# Altium schematic symbol library analog_gps.SchLib: 3 symbols
Pins are listed as number, name and electrical type; pins without a type are passive.

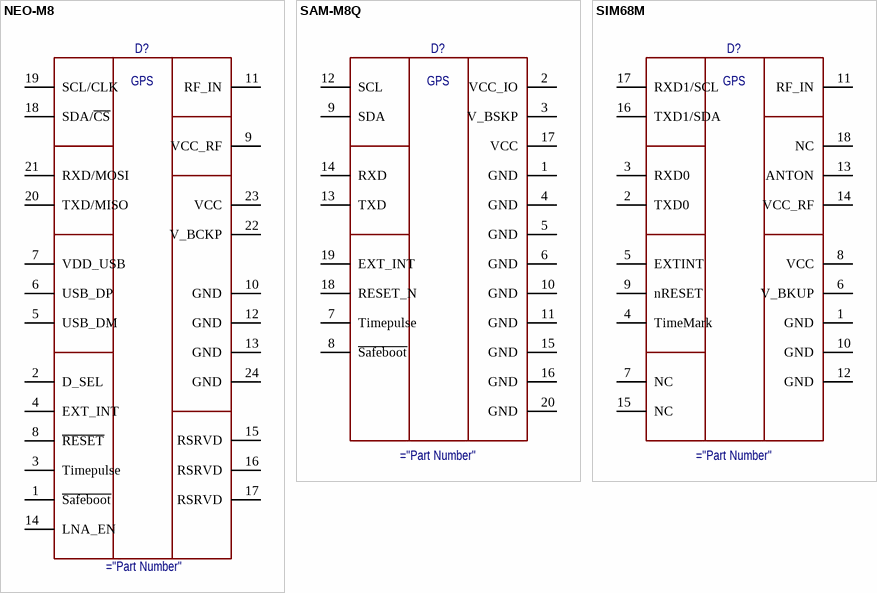
[diagram p0: symbols NEO-M8 to SIM68M]

## NEO-M8
designator D?
GPS Module
pins: 1 ~{Safeboot}, 2 D_SEL, 3 Timepulse, 4 EXT_INT, 5 USB_DM, 6 USB_DP, 7 VDD_USB, 8 ~{RESET}, 9 VCC_RF, 10 GND, 11 RF_IN, 12 GND, 13 GND, 14 LNA_EN, 15 RSRVD, 16 RSRVD, 17 RSRVD, 18 SDA/~{CS}, 19 SCL/CLK, 20 TXD/MISO, 21 RXD/MOSI, 22 V_BCKP, 23 VCC, 24 GND
text: GPS

## SAM-M8Q
designator D?
GPS Module
pins: 1 GND, 2 VCC_IO, 3 V_BSKP, 4 GND, 5 GND, 6 GND, 7 Timepulse, 8 ~{Safeboot}, 9 SDA, 10 GND, 11 GND, 12 SCL, 13 TXD, 14 RXD, 15 GND, 16 GND, 17 VCC, 18 RESET_N, 19 EXT_INT, 20 GND
text: GPS

## SIM68M
designator D?
GPS Module
pins: 1 GND, 2 TXD0, 3 RXD0, 4 TimeMark, 5 EXTINT, 6 V_BKUP, 7 NC, 8 VCC, 9 nRESET, 10 GND, 11 RF_IN, 12 GND, 13 ANTON, 14 VCC_RF, 15 NC, 16 TXD1/SDA, 17 RXD1/SCL, 18 NC
text: GPS